# EAGLE library part 690367291876 (library Eagle_BOARD-TO-BOARD_CONNECTORS (rev18b))
WR-MM Female SMT Connector with Latch and with Polarization, 18 Pins=>Code : Con_BTB_MM_Female_SMT_690367291876 <http://katalog.we-online.de/media/images/v2/WR-MiMo_69036729xx76.jpg> Details see: http://katalog.we-online.de/en/em/6903_6729_xx_76 Created 2014-06-04, Karrer Zheng 2014 (C) Würth Elektronik
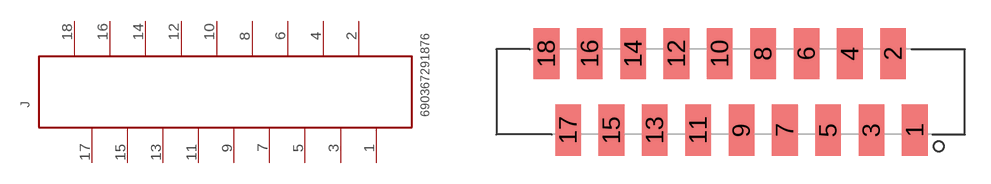
[diagram p366: symbol with the pads of 690367291876; footprint 690367291876]

Designator prefix J

## 690367291876  [690367291876]
1  1  pas
2  2  pas
3  3  pas
4  4  pas
5  5  pas
6  6  pas
7  7  pas
8  8  pas
9  9  pas
10  10  pas
11  11  pas
12  12  pas
13  13  pas
14  14  pas
15  15  pas
16  16  pas
17  17  pas
18  18  pas

## Footprint 690367291876 (pad centres in mm)
WR-MM Female SMT Connector with Latch and with Polarization, 18 pins
smd 1.5 x 3: 1 10.795,-2.25; 2 9.525,2.25; 3 8.255,-2.25; 4 6.985,2.25; 5 5.715,-2.25; 6 4.445,2.25; 7 3.175,-2.25; 8 1.905,2.25; 9 0.635,-2.25; 10 -0.635,2.25; 11 -1.905,-2.25; 12 -3.175,2.25; 13 -4.445,-2.25; 14 -5.715,2.25; 15 -6.985,-2.25; 16 -8.255,2.25; 17 -9.525,-2.25; 18 -10.795,2.25